# EAGLE library part DS06 (library misc)
DIL/CODE SWITCH
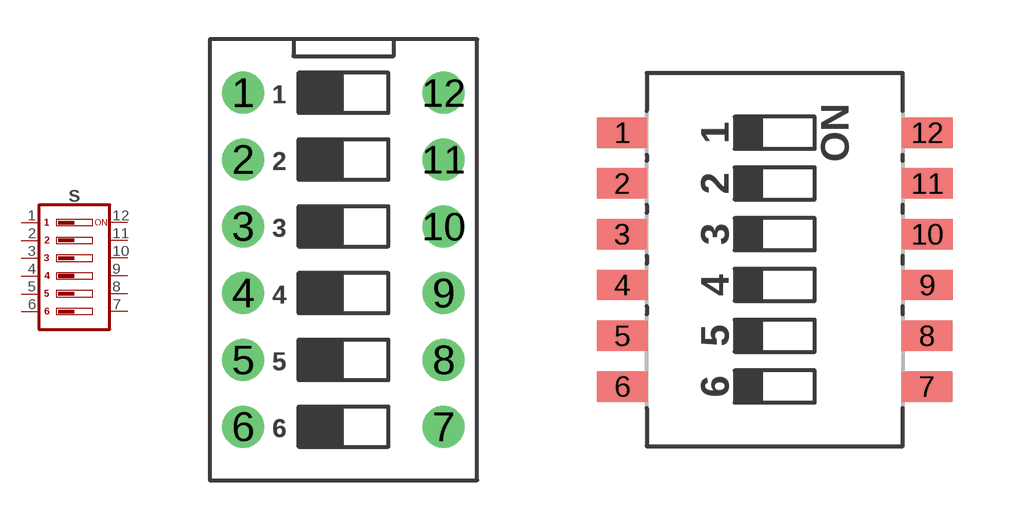
[diagram p36: symbol with the pads of DS-06; footprints DS-06, KLS7-KPR-06]

Designator prefix S

## DS06-DS (MPN: MCDS06; OC_FARNELL: 9471588; OC_NEWARK: 26M1105)  [DS-06]
1  1  pas
2  2  pas
3  3  pas
4  4  pas
5  5  pas
6  6  pas
7  7  pas
8  8  pas
9  9  pas
10  10  pas
11  11  pas
12  12  pas

## DS06-KLS7-KPR (LCSC#: C40737; MANF: KLS electronic co ltd; MANF#: L-KLS7-KPR-06-N-11)  [KLS7-KPR-06]
Pads as for DS-06

## Footprint DS-06 (pad centres in mm)
DIL/CODE SWITCH Mors distributor Buerklin, 17G558 3D model <https://grabcad.com/library/toggle-switches-dip-2-54mm-1>
drill 0.9 pad 1.6: 1 -3.81,6.35; 2 -3.81,3.81; 3 -3.81,1.27; 4 -3.81,-1.27; 5 -3.81,-3.81; 6 -3.81,-6.35; 7 3.81,-6.35; 8 3.81,-3.81; 9 3.81,-1.27; 10 3.81,1.27; 11 3.81,3.81; 12 3.81,6.35

## Footprint KLS7-KPR-06 (pad centres in mm)
Datasheet <http://www.klsele.com/admin/product_upload/20160706152714KLS7-KPR.pdf>
smd 1.27 x 0.76: 1 -3.815,3.175; 2 -3.815,1.905; 3 -3.815,0.635; 4 -3.805,-0.635; 5 -3.805,-1.905; 6 -3.805,-3.175; 7 3.805,-3.175; 8 3.805,-1.905; 9 3.815,-0.635; 10 3.815,0.635; 11 3.815,1.905; 12 3.815,3.175